# EAGLE library part LTC2955 (library Schuyler)
Pushbutton On/Off Controller with Automatic Turn-On http://cds.linear.com/docs/en/datasheet/2955f.pdf
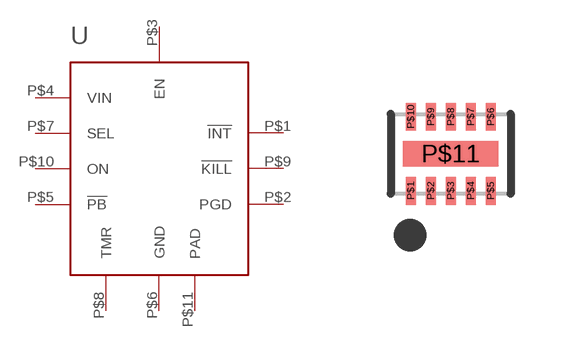
[diagram p22: symbol with the pads of 10-DFN; footprint 10-DFN]

Designator prefix -

## LTC2955-1 (MANPARTNUMBER: LTC2955CDDB-1#TRMPBF; MANUFACTURER: Linear Technology; PARTNUMBER: LTC2955CDDB-1#TRMPBFCT-ND; SUPPLIER: DIGIKEY; VERIFIED: FALSE)  [10-DFN]
P$1  !INT  out
P$2  PGD  out
P$3  EN  out
P$4  VIN  pas
P$5  !PB  in
P$6  GND  pwr
P$7  SEL  in
P$8  TMR
P$9  !KILL  in
P$10  ON  in
P$11  PAD  pwr

## Footprint 10-DFN (pad centres in mm)
10-DFN Exposed Pad package from LTC. http://cds.linear.com/docs/en/datasheet/2955f.pdf
smd 0.25 x 0.7: P$1 -1,-0.925; P$2 -0.5,-0.925; P$3 0,-0.925; P$4 0.5,-0.925; P$5 1,-0.925; P$6 1,0.925; P$7 0.5,0.925; P$8 0,0.925; P$9 -0.5,0.925; P$10 -1,0.925
smd 2.39 x 0.64: P$11 0,0